# Altium footprint library PCB - CONNECTOR - TE - TE 282837-6.PcbLib: 1 footprints
Each footprint in its own frame and in the unit in brackets; x right, y up, seen from the top. Pads: shape width x height; smd on the part's side, far side on the other; paste and mask are expansions set on the pad; w line width, h text height; cw(c..) or ccw(c..) is an arc to the next point about the centre after c.
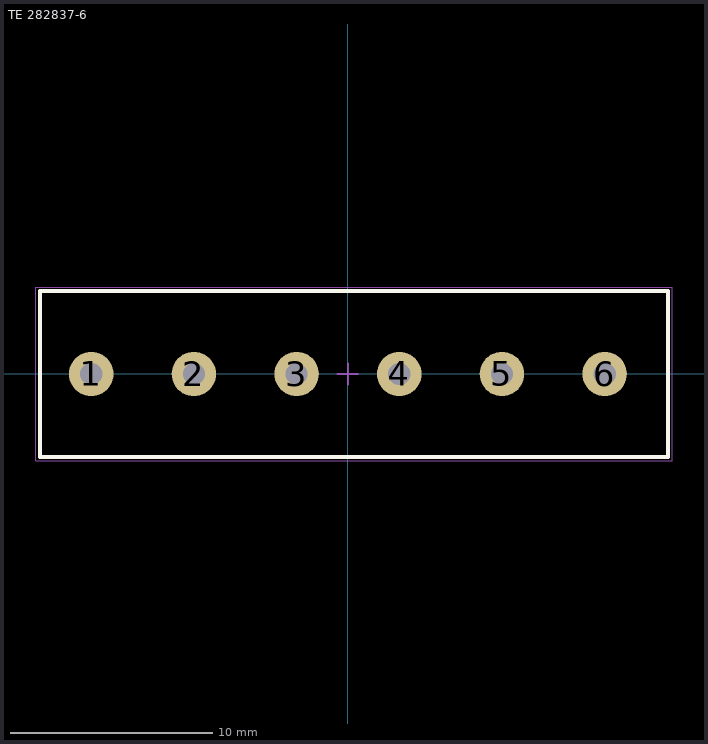
[diagram p0: the footprint, top view; thin cyan lines are the x and y axes]

## TE 282837-6 [mm] "Wire to Board Terminal Block Horizontal with Board, 6 Postions, Body 31.08x8.2mm, Pitch 5.08mm"
height 10.3
pads (6):
  round 2.2 hole 1.1: 1(-12.7,0) 2(-7.62,0) 3(-2.54,0) 4(2.54,0) 5(7.62,0) 6(12.7,0)
Top Overlay:
  lines w0.2: -15.24,-4.1 15.84,-4.1 15.84,4.1 -15.24,4.1 -15.24,-4.1
Mechanical 13:
  lines w0.1: -15.24,-4.1 15.84,-4.1 15.84,4.1 -15.24,4.1 -15.24,-4.1
Mechanical 15 (Mech15):
  lines w0.05: -15.44,-4.3 -15.44,4.3 16.04,4.3 16.04,-4.3 -15.44,-4.3
  lines w0.1: -0.508,0 0,0 ; 0,-0.508 0,0 ; 0,0.508 0,0 ; 0.508,0 0,0
3D body "TE - 282837-6.STEP": height 10, standoff -4.1, extent -15.24,-4.1 15.84,4.1